# Altium schematic symbol library wch554e.SchLib: 11 symbols
Pins are listed as number, name and electrical type; pins without a type are passive.

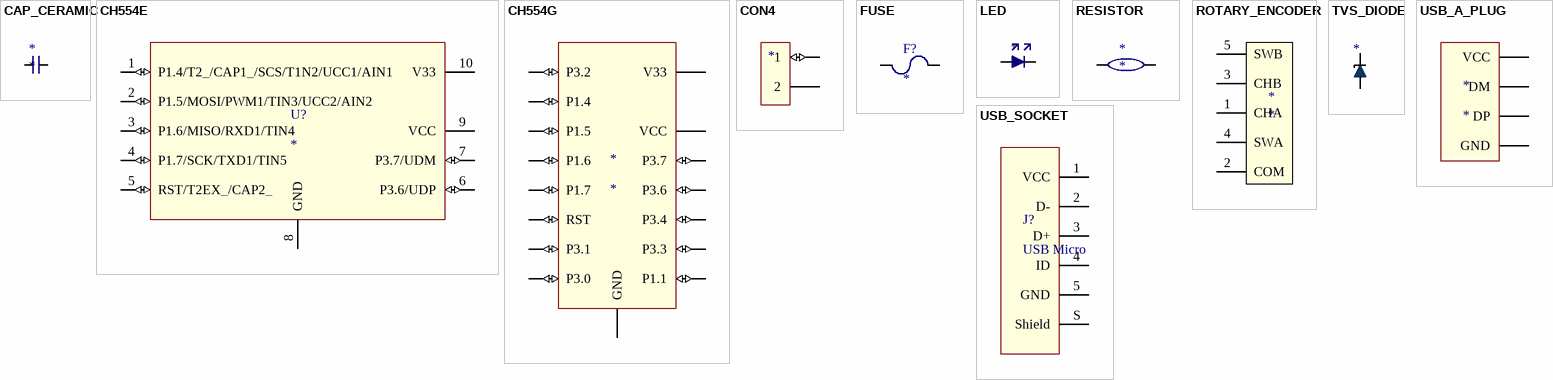
[diagram p0: symbols CAP_CERAMIC to USB_SOCKET]

## CAP_CERAMIC
designator *
MLCC; Value: *
footprint MLCC_0603 (MLCC 0603)
pins: 1 A, 2 B

## CH554E
designator U?
CH554E; Supplier Part No. 1: C111293
footprint MSOP10 (MSOP10 3x3 x 0.5)
pins: 1 P1.4/T2_/CAP1_/SCS/T1N2/UCC1/AIN1 (io), 2 P1.5/MOSI/PWM1/TIN3/UCC2/AIN2 (io), 3 P1.6/MISO/RXD1/TIN4 (io), 4 P1.7/SCK/TXD1/TIN5 (io), 5 RST/T2EX_/CAP2_ (io), 6 P3.6/UDP (io), 7 P3.7/UDM (io), 8 GND (power), 9 VCC (power), 10 V33 (power)

## CH554G
designator *
pins: 1 P3.2 (io), 2 P1.4 (io), 3 P1.5 (io), 4 P1.6 (io), 5 P1.7 (io), 6 RST (io), 7 P3.1 (io), 8 P3.0 (io), 9 P1.1 (io), 10 P3.3 (io), 11 P3.4 (io), 12 P3.6 (io), 13 P3.7 (io), 14 GND (power), 15 VCC (power), 16 V33 (power)

## CON4
designator *  (value not drawn)
Debug header
footprint CON4 (4 way debug header)
pins: 1 (io), 2 (power)

## FUSE
designator F?
FUSE; Value: *
footprint FUSE_0603 (FUSE 0603)
footprint FUSE_0805
pins: 1 (power), 2 (power)

## LED
designator *
LED; Value: *
footprint SMT_LED_0603 (SMT LED 0603)
pins: 1 CATHODE "TP", 2 ANODE "TP"

## RESISTOR
designator *
Resistor; Value: *
footprint SMT_RES_0603 (0603 SMT Resistor)
pins: 1 A, 2 B

## ROTARY_ENCODER
designator *
Rotary Encoder
footprint ENCODER (Rotary encoder)
pins: 1 CHA, 2 COM, 3 CHB, 4 SWA, 5 SWB

## TVS_DIODE
designator *  (value not drawn)
TVS Diode
footprint TVS_DIODE (SODFL 98x40 2 pin)
footprint UDFN2 (DFN, 2-Leads, Body 0.60x1.00mm, Pitch 0.65mm, IPC Medium Density)
footprint SOD323 1.6x1.25 (SODFL, 2-Leads, Body 1.20x2.30mm, IPC Medium Density)
pins: 1 K, 2 A

## USB_A_PLUG
designator *
footprint USB_A (USB A Plug)
pins: 1 VCC (power), 2 DM (power), 3 DP (power), 4 GND (power)

## USB_SOCKET
designator J?, comment USB Micro
USB Receptacle; Supplier Part No. 1: C397452
footprint USB MICRO B (USB Micro B Receptacle)
pins: 1 VCC, 2 D-, 3 D+, 4 ID, 5 GND, S Shield